# Altium schematic symbol library MOSFET-P-CH.SchLib: 1 symbol
Pins are listed as number, name and electrical type; pins without a type are passive.

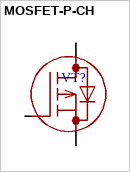
[diagram p0: symbol MOSFET-P-CH]

## MOSFET-P-CH
designator VT?
pins: 1 G, 2 S, 3 D